# Altium schematic symbol library DS02-254-1L-04BE.Schlib: 1 symbol
Pins are listed as number, name and electrical type; pins without a type are passive.

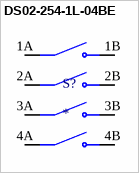
[diagram p0: symbol DS02-254-1L-04BE]

## DS02-254-1L-04BE
designator S?
Dip Switch Piano Key 4-position; MP: DS02-254-1L-04BE; Package: None; Price: None; Value: *
footprint SW_DS02-254-1L-04BE
pins: 1A COM1, 1B NO1, 2A COM2, 2B NO2, 3A COM3, 3B NO3, 4A COM4, 4B NO4